# EAGLE library part ADP1740 (library analog-devices)
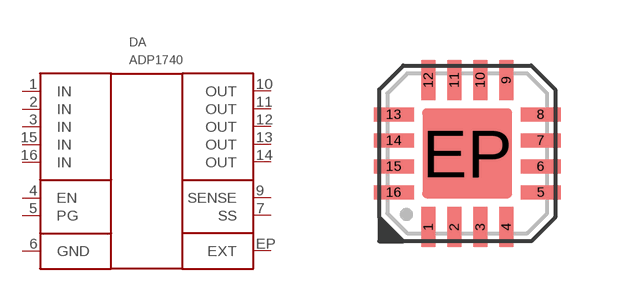
[diagram p6: symbol with the pads of LFCSP-16; footprint LFCSP-16]

Designator prefix DA

## ADP1740ACPZ-0.75R7  [LFCSP-16]
1  IN  pwr
2  IN  pwr
3  IN  pwr
4  EN  in
5  PG  in
6  GND  pwr
7  SS  in
9  SENSE  in
10  OUT  pwr
11  OUT  pwr
12  OUT  pwr
13  OUT  pwr
14  OUT  pwr
15  IN  pwr
16  IN  pwr
EP  EXT  pwr

## ADP1740ACPZ-1.0-R7  [LFCSP-16]
Pads as for LFCSP-16

## ADP1740ACPZ-1.1-R7  [LFCSP-16]
Pads as for LFCSP-16

## ADP1740ACPZ-1.2-R7  [LFCSP-16]
Pads as for LFCSP-16

## ADP1740ACPZ-1.3-R7  [LFCSP-16]
Pads as for LFCSP-16

## ADP1740ACPZ-1.5-R7  [LFCSP-16]
Pads as for LFCSP-16

## ADP1740ACPZ-1.8-R7  [LFCSP-16]
Pads as for LFCSP-16

## ADP1740ACPZ-2.5-R7  [LFCSP-16]
Pads as for LFCSP-16

## Footprint LFCSP-16 (pad centres in mm)
smd 0.35 x 1: 1 -0.975,-1.84; 2 -0.325,-1.84; 3 0.325,-1.84; 4 0.975,-1.84; 9 0.975,1.84; 10 0.325,1.84; 11 -0.325,1.84; 12 -0.975,1.84
smd 1 x 0.35: 5 1.84,-0.975; 6 1.84,-0.325; 7 1.84,0.325; 8 1.84,0.975; 13 -1.84,0.975; 14 -1.84,0.325; 15 -1.84,-0.325; 16 -1.84,-0.975
smd 2.25 x 2.25: EP 0,0